# Altium footprint library SplitHE_Int.PcbLib: 42 footprints (part 3 of 3)
Each footprint in its own frame and in the unit in brackets; x right, y up, seen from the top. Pads: shape width x height; smd on the part's side, far side on the other; paste and mask are expansions set on the pad; w line width, h text height; cw(c..) or ccw(c..) is an arc to the next point about the centre after c.
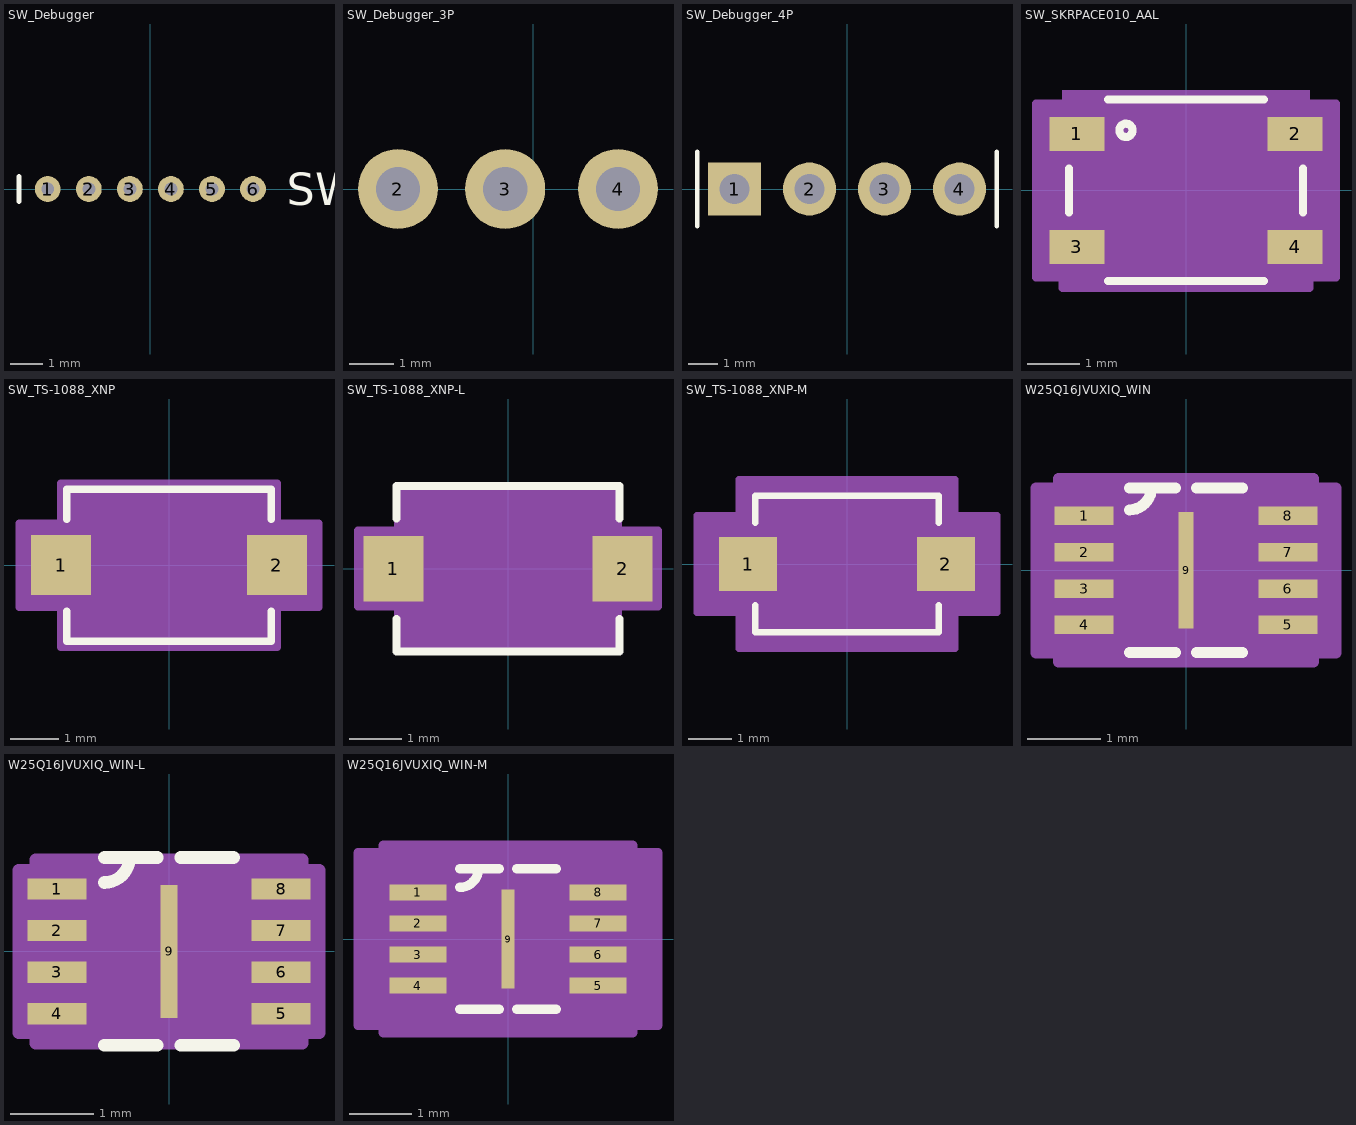
[diagram p2: the footprints below, top view; thin cyan lines are the x and y axes]

## SW_Debugger [mm]
pads (6):
  round 0.8 hole 0.4: 1(-3.175,0) 2(-1.905,0) 3(-0.635,0) 4(0.635,0) 5(1.905,0) 6(3.175,0)
Top Overlay:
  lines w0.152: -4.064,-0.381 -4.064,0.381
  text "SWD" at 4.216,-0.5 h1
Bottom Overlay:
  lines w0.152: -4.064,-0.381 -4.064,0.381
  text "SWD" at 4.216,0.5 h1

## SW_Debugger_3P [mm]
pads (3):
  round 1.8 hole 1: 2(-3.048,0) 3(-0.635,0) 4(1.905,0)

## SW_Debugger_4P [mm]
pads (4):
  rect 1.8x1.8 hole 1: 1(-3.81,0)
  round 1.8 hole 1: 2(-1.27,0) 3(1.27,0) 4(3.81,0)
Top Overlay:
  lines w0.152: -5.08,-1.27 -5.08,1.27 ; 5.08,-1.27 5.08,1.27

## SW_SKRPACE010_AAL [mm]
pads (4):
  rect 1.05x0.65 smd paste+0 mask+0: 1(-2.075,1.075) 2(2.075,1.075) 3(-2.075,-1.075) 4(2.075,-1.075)
Top Overlay:
  circle w0.152: c-1.143,1.143 r0.127
  lines w0.152: -2.227,-0.417 -2.227,0.417 ; -1.488,-1.727 1.488,-1.727 ; -1.488,1.727 1.488,1.727 ; 2.227,-0.417 2.227,0.417
Mechanical 13:
  circle w0: c-1.55,1.075 r0.076
  lines w0: -0.305,1.6 ccw(c0,1.6) 0.305,1.6
  lines w0.025: -2.1,-1.6 2.1,-1.6 2.1,1.6 -2.1,1.6 -2.1,-1.6
Mechanical 15:
  region: -2.354,-1.654 -2.854,-1.654 -2.854,1.654 -2.354,1.654 -2.354,1.908 2.354,1.908 2.354,1.654 2.854,1.654 2.854,-1.654 2.354,-1.654 2.354,-1.854 -2.354,-1.854
  lines w0.152: -2.854,-1.654 -2.854,1.654 -2.354,1.654 -2.354,0.762 2.354,0.762 2.354,1.654 2.854,1.654 2.854,-1.654 2.354,-1.654 2.354,-1.854 -2.354,-1.854 -2.354,-1.654 -2.854,-1.654
3D body "SW_SKRPACE010_AAL.step": height 2.5, standoff 0, extent -2.1,-1.6 2.1,1.6

## SW_TS-1088_XNP [mil]
pads (2):
  rect 49x49 smd paste+0 mask+0: 1(-88,0) 2(88,0)
Top Overlay:
  lines w6: -83.5,-37.6 -83.5,-62 83.5,-62 83.5,-37.6 ; -83.5,37.6 -83.5,62 83.5,62 83.5,37.6
Mechanical 13:
  circle w1: c-63.5,0 r3
  lines w1: -12,57 ccw(c0,57) 12,57 ; -78.5,-57 78.5,-57 78.5,57 -78.5,57 -78.5,-57
Mechanical 15:
  region: -88.5,-34.5 -122.5,-34.5 -122.5,34.5 -88.5,34.5 -88.5,67 88.5,67 88.5,34.5 122.5,34.5 122.5,-34.5 88.5,-34.5 88.5,-67 -88.5,-67
  lines w6: -122.5,-34.5 -122.5,34.5 -88.5,34.5 -88.5,67 88.5,67 88.5,34.5 122.5,34.5 122.5,-34.5 88.5,-34.5 88.5,-67 -88.5,-67 -88.5,-34.5 -122.5,-34.5
3D body "SW_TS-1088_XNP.step": height 79.09, standoff 0, extent -100.51,-57.01 100.51,57.01

## SW_TS-1088_XNP-L [mil]
pads (2):
  rect 45x49 smd paste+0 mask+0: 1(-86,0) 2(86,0)
Top Overlay:
  lines w6: -83.5,-37.6 -83.5,-62 83.5,-62 83.5,-37.6 ; -83.5,37.6 -83.5,62 83.5,62 83.5,37.6
Mechanical 13:
  circle w1: c-63.5,0 r3
  lines w1: -12,57 ccw(c0,57) 12,57 ; -78.5,-57 -78.5,57 78.5,57 78.5,-57 -78.5,-57
Mechanical 15:
  region: -82.5,-28.5 -112.5,-28.5 -112.5,28.5 -82.5,28.5 -82.5,61 82.5,61 82.5,28.5 112.5,28.5 112.5,-28.5 82.5,-28.5 82.5,-61 -82.5,-61
  lines w6: -112.5,-28.5 -82.5,-28.5 -82.5,-61 82.5,-61 82.5,-28.5 112.5,-28.5 112.5,28.5 82.5,28.5 82.5,61 -82.5,61 -82.5,28.5 -112.5,28.5 -112.5,-28.5
3D body "SW_TS-1088_XNP.step": height 79.09, standoff 0, extent -100.51,-57.01 100.51,57.01

## SW_TS-1088_XNP-M [mil]
pads (2):
  rect 53x49 smd paste+0 mask+0: 1(-90,0) 2(90,0)
Top Overlay:
  lines w6: -83.5,-37.6 -83.5,-62 83.5,-62 83.5,-37.6 ; -83.5,37.6 -83.5,62 83.5,62 83.5,37.6
Mechanical 13:
  circle w1: c-63.5,0 r3
  lines w1: -12,57 ccw(c0,57) 12,57 ; -78.5,-57 78.5,-57 78.5,57 -78.5,57 -78.5,-57
Mechanical 15:
  region: -98.5,-44.5 -136.5,-44.5 -136.5,44.5 -98.5,44.5 -98.5,77 98.5,77 98.5,44.5 136.5,44.5 136.5,-44.5 98.5,-44.5 98.5,-77 -98.5,-77
  lines w6: -136.5,-44.5 -136.5,44.5 -98.5,44.5 -98.5,77 98.5,77 98.5,44.5 136.5,44.5 136.5,-44.5 98.5,-44.5 98.5,-77 -98.5,-77 -98.5,-44.5 -136.5,-44.5
3D body "SW_TS-1088_XNP.step": height 79.09, standoff 0, extent -100.51,-57.01 100.51,57.01

## W25Q16JVUXIQ_WIN [mil]
pads (9):
  rect 32x10 smd paste+0 mask+0: 1(-55.06,29.53) 2(-55.06,9.84) 3(-55.06,-9.84) 4(-55.06,-29.53) 5(55.06,-29.53) 6(55.06,-9.84) 7(55.06,9.84) 8(55.06,29.53)
  rect 8x63 smd paste+0 mask+0: 9(0,0)
Top Overlay:
  lines w6: -30.56,-44.5 -5.62,-44.5 ; -30.56,32.69 ccw(c-30.56,44.5) -18.75,44.5 ; -30.56,44.5 -5.62,44.5 ; 5.62,-44.5 30.56,-44.5 ; 5.62,44.5 30.56,44.5
Mechanical 13:
  circle w6: c-39.06,29.53 r3
  lines w0: -12,39.5 ccw(c0,39.5) 12,39.5
  lines w1: -59,-39.5 59,-39.5 59,39.5 -59,39.5 -59,-39.5
Mechanical 15:
  region: -69,-44.53 -81.06,-44.53 -81.06,44.53 -69,44.53 -69,49.5 69,49.5 69,44.53 81.06,44.53 81.06,-44.53 69,-44.53 69,-49.5 -69,-49.5
  lines w6: -81.06,-44.53 -81.06,44.53 -69,44.53 -69,49.5 69,49.5 69,44.53 81.06,44.53 81.06,-44.53 69,-44.53 69,-49.5 -69,-49.5 -69,-44.53 -81.06,-44.53
3D body "W25Q16JVUXIQ_WIN.step": height 24.09, standoff 0, extent -59.06,-39.49 59.06,39.49

## W25Q16JVUXIQ_WIN-L [mil]
pads (9):
  rect 28x10 smd paste+0 mask+0: 1(-53.06,29.53) 2(-53.06,9.84) 3(-53.06,-9.84) 4(-53.06,-29.53) 5(53.06,-29.53) 6(53.06,-9.84) 7(53.06,9.84) 8(53.06,29.53)
  rect 8x63 smd paste+0 mask+0: 9(0,0)
Top Overlay:
  lines w6: -30.56,-44.5 -5.62,-44.5 ; -30.56,32.69 ccw(c-30.56,44.5) -18.75,44.5 ; -30.56,44.5 -5.62,44.5 ; 5.62,-44.5 30.56,-44.5 ; 5.62,44.5 30.56,44.5
Mechanical 13:
  circle w0: c-39.06,29.53 r3
  lines w0: -12,39.5 ccw(c0,39.5) 12,39.5
  lines w1: -59,-39.5 59,-39.5 59,39.5 -59,39.5 -59,-39.5
Mechanical 15:
  region: -63,-38.53 -71.06,-38.53 -71.06,38.53 -63,38.53 -63,43.5 63,43.5 63,38.53 71.06,38.53 71.06,-38.53 63,-38.53 63,-43.5 -63,-43.5
  lines w6: -71.06,-38.53 -71.06,38.53 -63,38.53 -63,43.5 63,43.5 63,38.53 71.06,38.53 71.06,-38.53 63,-38.53 63,-43.5 -63,-43.5 -63,-38.53 -71.06,-38.53
3D body "W25Q16JVUXIQ_WIN.step": height 24.09, standoff 0, extent -59.06,-39.49 59.06,39.49

## W25Q16JVUXIQ_WIN-M [mil]
pads (9):
  rect 36x10 smd paste+0 mask+0: 1(-57.06,29.53) 2(-57.06,9.84) 3(-57.06,-9.84) 4(-57.06,-29.53) 5(57.06,-29.53) 6(57.06,-9.84) 7(57.06,9.84) 8(57.06,29.53)
  rect 8x63 smd paste+0 mask+0: 9(0,0)
Top Overlay:
  lines w6: -30.56,-44.5 -5.62,-44.5 ; -30.56,32.69 ccw(c-30.56,44.5) -18.75,44.5 ; -30.56,44.5 -5.62,44.5 ; 5.62,-44.5 30.56,-44.5 ; 5.62,44.5 30.56,44.5
Mechanical 13:
  circle w0: c-39.06,29.53 r3
  lines w0: -12,39.5 ccw(c0,39.5) 12,39.5
  lines w1: -59,-39.5 59,-39.5 59,39.5 -59,39.5 -59,-39.5
Mechanical 15:
  region: -79,-54.53 -95.06,-54.53 -95.06,54.53 -79,54.53 -79,59.5 79,59.5 79,54.53 95.06,54.53 95.06,-54.53 79,-54.53 79,-59.5 -79,-59.5
  lines w6: -95.06,-54.53 -95.06,54.53 -79,54.53 -79,59.5 79,59.5 79,54.53 95.06,54.53 95.06,-54.53 79,-54.53 79,-59.5 -79,-59.5 -79,-54.53 -95.06,-54.53
3D body "W25Q16JVUXIQ_WIN.step": height 24.09, standoff 0, extent -59.06,-39.49 59.06,39.49